# Altium footprint library WOLF-Adapter.PcbLib: 49 footprints (part 3 of 4)
Each footprint in its own frame and in the unit in brackets; x right, y up, seen from the top. Pads: shape width x height; smd on the part's side, far side on the other; paste and mask are expansions set on the pad; w line width, h text height; cw(c..) or ccw(c..) is an arc to the next point about the centre after c.
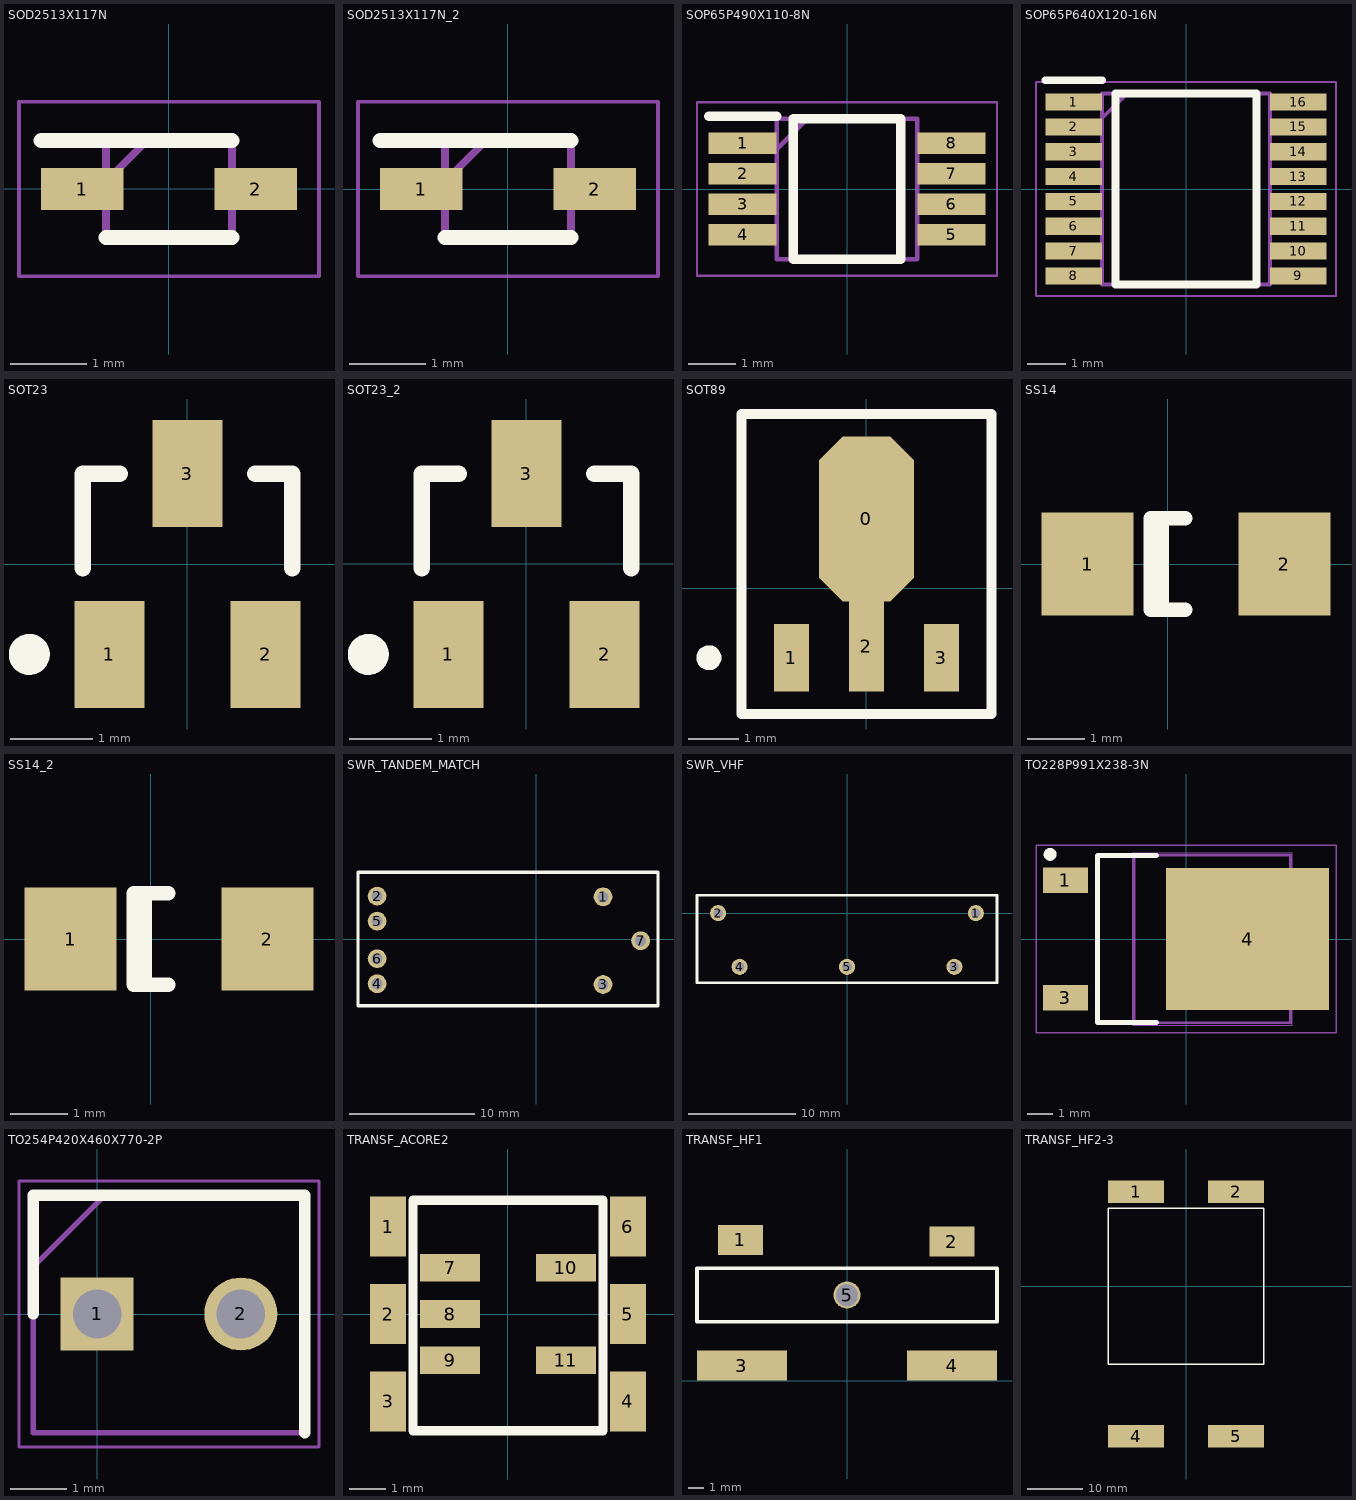
[diagram p2: the footprints below, top view; thin cyan lines are the x and y axes]

## SOD2513X117N [mm]
pads (2):
  rect 1.085x0.55 smd: 1(-1.14,0) 2(1.14,0)
Top Overlay:
  lines w0.2: -1.682,0.64 0.83,0.64 ; -0.83,-0.64 0.83,-0.64
Mechanical 13:
  lines w0.1: -0.83,0.098 -0.288,0.64 ; -0.83,-0.64 -0.83,0.64 0.83,0.64 0.83,-0.64 -0.83,-0.64
Mechanical 15:
  lines w0.05: -1.975,-1.15 -1.975,1.15 1.975,1.15 1.975,-1.15 -1.975,-1.15
3D body "BAT46JFILM.stp": height 1.17, standoff 0, extent -1.25,-0.64 1.25,0.64

## SOD2513X117N_2 [mm]
pads (2):
  rect 1.085x0.55 smd: 1(-1.14,0) 2(1.14,0)
Top Overlay:
  lines w0.2: -1.682,0.64 0.83,0.64 ; -0.83,-0.64 0.83,-0.64
Mechanical 13:
  lines w0.1: -0.83,0.098 -0.288,0.64 ; -0.83,-0.64 -0.83,0.64 0.83,0.64 0.83,-0.64 -0.83,-0.64
Mechanical 15:
  lines w0.05: -1.975,-1.15 -1.975,1.15 1.975,1.15 1.975,-1.15 -1.975,-1.15
3D body "BAT46JFILM.stp": height 1.17, standoff 0, extent -1.25,-0.64 1.25,0.64

## SOP65P490X110-8N [mm]
pads (8):
  rect 1.45x0.45 smd: 1(-2.225,0.975) 2(-2.225,0.325) 3(-2.225,-0.325) 4(-2.225,-0.975) 5(2.225,-0.975) 6(2.225,-0.325) 7(2.225,0.325) 8(2.225,0.975)
Top Overlay:
  lines w0.2: -2.95,1.55 -1.5,1.55 ; -1.15,-1.5 -1.15,1.5 1.15,1.5 1.15,-1.5 -1.15,-1.5
Mechanical 13:
  lines w0.1: -1.5,0.85 -0.85,1.5 ; -1.5,-1.5 -1.5,1.5 1.5,1.5 1.5,-1.5 -1.5,-1.5
Mechanical 15:
  lines w0.05: -3.2,-1.85 -3.2,1.85 3.2,1.85 3.2,-1.85 -3.2,-1.85
3D body "ADG918BRMZ.stp": height 1.1, standoff 0, extent -2.45,-1.5 2.45,1.5

## SOP65P640X120-16N [mm]
pads (16):
  rect 1.48x0.45 smd: 1(-2.935,2.275) 2(-2.935,1.625) 3(-2.935,0.975) 4(-2.935,0.325) 5(-2.935,-0.325) 6(-2.935,-0.975) 7(-2.935,-1.625) 8(-2.935,-2.275) 9(2.935,-2.275) 10(2.935,-1.625) 11(2.935,-0.975) 12(2.935,-0.325) 13(2.935,0.325) 14(2.935,0.975) 15(2.935,1.625) 16(2.935,2.275)
Top Overlay:
  lines w0.2: -3.675,2.85 -2.195,2.85 ; -1.845,-2.5 1.845,-2.5 1.845,2.5 -1.845,2.5 -1.845,-2.5
Mechanical 13:
  lines w0.1: -2.195,1.85 -1.545,2.5 ; -2.195,-2.5 2.195,-2.5 2.195,2.5 -2.195,2.5 -2.195,-2.5
Mechanical 15:
  lines w0.05: -3.925,-2.8 3.925,-2.8 3.925,2.8 -3.925,2.8 -3.925,-2.8
3D body "STPIC6C595TTR.stp": height 1.2, standoff 0, extent -3.2,-2.5 3.2,2.5

## SOT23 [mm] "SOT-23; 3 Leads; Body 3.0 x 2.6 mm, inc. leads (LxW max)"
height 1.1
pads (3):
  rect 0.85x1.3 smd: 1(-0.95,-1.1) 2(0.95,-1.1) 3(0,1.1)
Top Overlay:
  circle w0.25: c-1.925,-1.1 r0.125
  lines w0.2: -1.275,-0.05 -1.275,1.1 -0.825,1.1 ; 0.825,1.1 1.275,1.1 1.275,-0.05

## SOT23_2 [mm]
pads (3):
  rect 0.85x1.3 smd: 1(-0.95,-1.1) 2(0.95,-1.1) 3(0,1.1)
Top Overlay:
  circle w0.25: c-1.925,-1.1 r0.125
  lines w0.2: -1.275,-0.05 -1.275,1.1 -0.825,1.1 ; 0.825,1.1 1.275,1.1 1.275,-0.05

## SOT89 [mm] "SOT-89; Body 4.6 x 4.25 mm, inc. leads (LxW max)"
height 1.6
pads (4):
  oct 1.9x3.3 smd: 0(0,1.388)
  rect 0.7x1.35 smd: 1(-1.5,-1.387) 3(1.5,-1.387)
  rect 0.7x1.8 smd: 2(0,-1.162)
Top Overlay:
  circle w0.25: c-3.15,-1.388 r0.125
  lines w0.2: -2.5,-2.513 2.5,-2.513 2.5,3.487 -2.5,3.487 -2.5,-2.513

## SS14 [mm]
pads (2):
  rect 1.6x1.8 smd: 1(-1.4,0) 2(2.032,0)
Top Overlay:
  lines w0.254: -0.111,-0.799 -0.111,0.799 ; 0.299,-0.799 -0.299,-0.799 -0.3,0.799 0.299,0.799

## SS14_2 [mm]
pads (2):
  rect 1.6x1.8 smd: 1(-1.4,0) 2(2.032,0)
Top Overlay:
  lines w0.254: -0.111,-0.799 -0.111,0.799 ; 0.299,-0.799 -0.299,-0.799 -0.3,0.799 0.299,0.799

## SWR_TANDEM_MATCH [mm]
pads (7):
  round 1.5 hole 0.9: 1(5.355,3.365) 2(-12.7,3.429) 3(5.355,-3.635) 4(-12.7,-3.571) 5(-12.7,1.429) 6(-12.7,-1.571) 7(8.355,-0.135)
Top Overlay:
  lines w0.254: -14.224,-5.335 9.745,-5.335 9.745,5.335 -14.224,5.335 -14.224,-5.335

## SWR_VHF [mm]
pads (5):
  round 1.5 hole 0.9: 1(12,0) 2(-12,0) 3(10,-5) 4(-10,-5) 5(0,-5)
Top Overlay:
  lines w0.254: -13.97,-6.477 13.97,-6.477 13.97,1.651 -13.97,1.651 -13.97,-6.477

## TO228P991X238-3N [mm]
pads (3):
  rect 1.75x1 smd: 1(-4.7,2.285) 3(-4.7,-2.285)
  rect 6.35x5.55 smd: 4(2.4,0)
Top Overlay:
  circle w0.25: c-5.3,3.3 r0.125
  lines w0.2: -1.15,-3.25 -3.45,-3.25 -3.45,3.25 -1.15,3.25
Mechanical 13:
  lines w0.1: 4.075,-2.605 4.365,-2.605 4.955,-1.952 4.955,1.952 4.365,2.605 4.075,2.605 ; -2.02,-3.27 4.075,-3.27 4.075,3.27 -2.02,3.27 -2.02,-3.27
Mechanical 15:
  circle w0.05: c0,0 r0.35
  lines w0.001: -2.082,-3.365 4.138,-3.365 4.138,3.365 -2.082,3.365 -2.082,-3.365
  lines w0.05: -0.5,0 0.5,0 ; 0,-0.5 0,0.5 ; -5.85,-3.65 5.85,-3.65 5.85,3.65 -5.85,3.65 -5.85,-3.65

## TO254P420X460X770-2P [mm]
pads (2):
  rect 1.29x1.29 hole 0.86: 1(0,0)
  round 1.29 hole 0.86: 2(2.54,0)
Top Overlay:
  lines w0.2: -1.13,0 -1.13,2.1 3.67,2.1 3.67,-2.1
Mechanical 13:
  lines w0.1: -1.13,0.83 0.14,2.1 ; -1.13,-2.1 -1.13,2.1 3.67,2.1 3.67,-2.1 -1.13,-2.1
Mechanical 15:
  lines w0.05: -1.38,-2.35 -1.38,2.35 3.92,2.35 3.92,-2.35 -1.38,-2.35
3D body "KTY81_110.stp": height 7.6, standoff -10.2, extent -1.03,-2.1 3.57,2.1

## TRANSF_ACORE2 [mm]
pads (11):
  rect 1x1.65 smd: 1(-3.3,2.4) 2(-3.3,0) 3(-3.3,-2.4) 4(3.3,-2.4) 5(3.3,0) 6(3.3,2.4)
  rect 1.65x0.76 smd: 7(-1.59,1.27) 8(-1.59,0) 9(-1.59,-1.27) 10(1.59,1.27) 11(1.59,-1.27)
Top Overlay:
  lines w0.254: -2.61,-3.21 2.61,-3.21 2.61,3.13 -2.61,3.13 -2.61,-3.21

## TRANSF_HF1 [mm]
pads (5):
  rect 3x2 smd: 1(-7.112,9.398) 2(6.985,9.271)
  rect 6x2 smd: 3(-7,1) 4(7,1)
  round 1.8 hole 1.5: 5(0,5.715)
Top Overlay:
  lines w0.254: -10,3.937 -10,7.499 10,7.499 10,3.937 -10,3.937

## TRANSF_HF2-3 [mm]
pads (4):
  rect 10x4 smd: 1(-9,17) 2(9,17) 4(-9,-27) 5(9,-27)
Top Overlay:
  lines w0.254: -14,-14 -14,14 14,14 14,-14 -14,-14